# EAGLE library part 24XXX (library be_memory)
edited: Mario Blunk / Blunk electronic
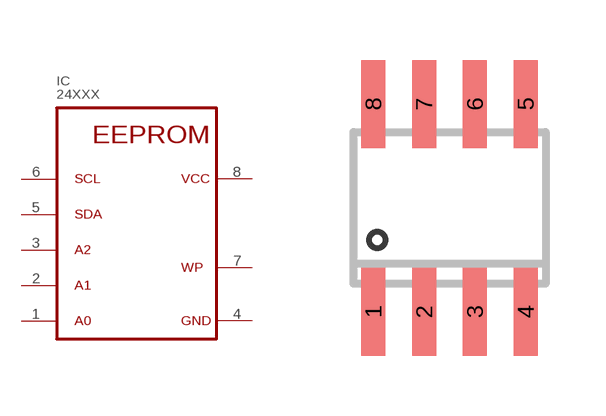
[diagram p1: symbol with the pads of S_SOIC8; footprint S_SOIC8]

Designator prefix IC

## 24XXXSN (BOM: YES; COMMISSIONED: 2013-08-30; PART_CODE_BEL: IC_PAC_S_SOIC8_VAL_)  [S_SOIC8]
1  A0  in
2  A1  in
3  A2  in
4  GND  pwr
5  SDA
6  SCL
7  WP  in
8  VCC  pwr

## Footprint S_SOIC8 (pad centres in mm)
edited: Mario Blunk / Blunk electronic date: 2015-04-22
smd 0.6 x 2.2: 1 -1.905,-2.6; 2 -0.635,-2.6; 3 0.635,-2.6; 4 1.905,-2.6; 5 1.905,2.6; 6 0.635,2.6; 7 -0.635,2.6; 8 -1.905,2.6